# Altium footprint library Diodes.PcbLib: 38 footprints (part 1 of 3)
Each footprint in its own frame and in the unit in brackets; x right, y up, seen from the top. Pads: shape width x height; smd on the part's side, far side on the other; paste and mask are expansions set on the pad; w line width, h text height; cw(c..) or ccw(c..) is an arc to the next point about the centre after c.
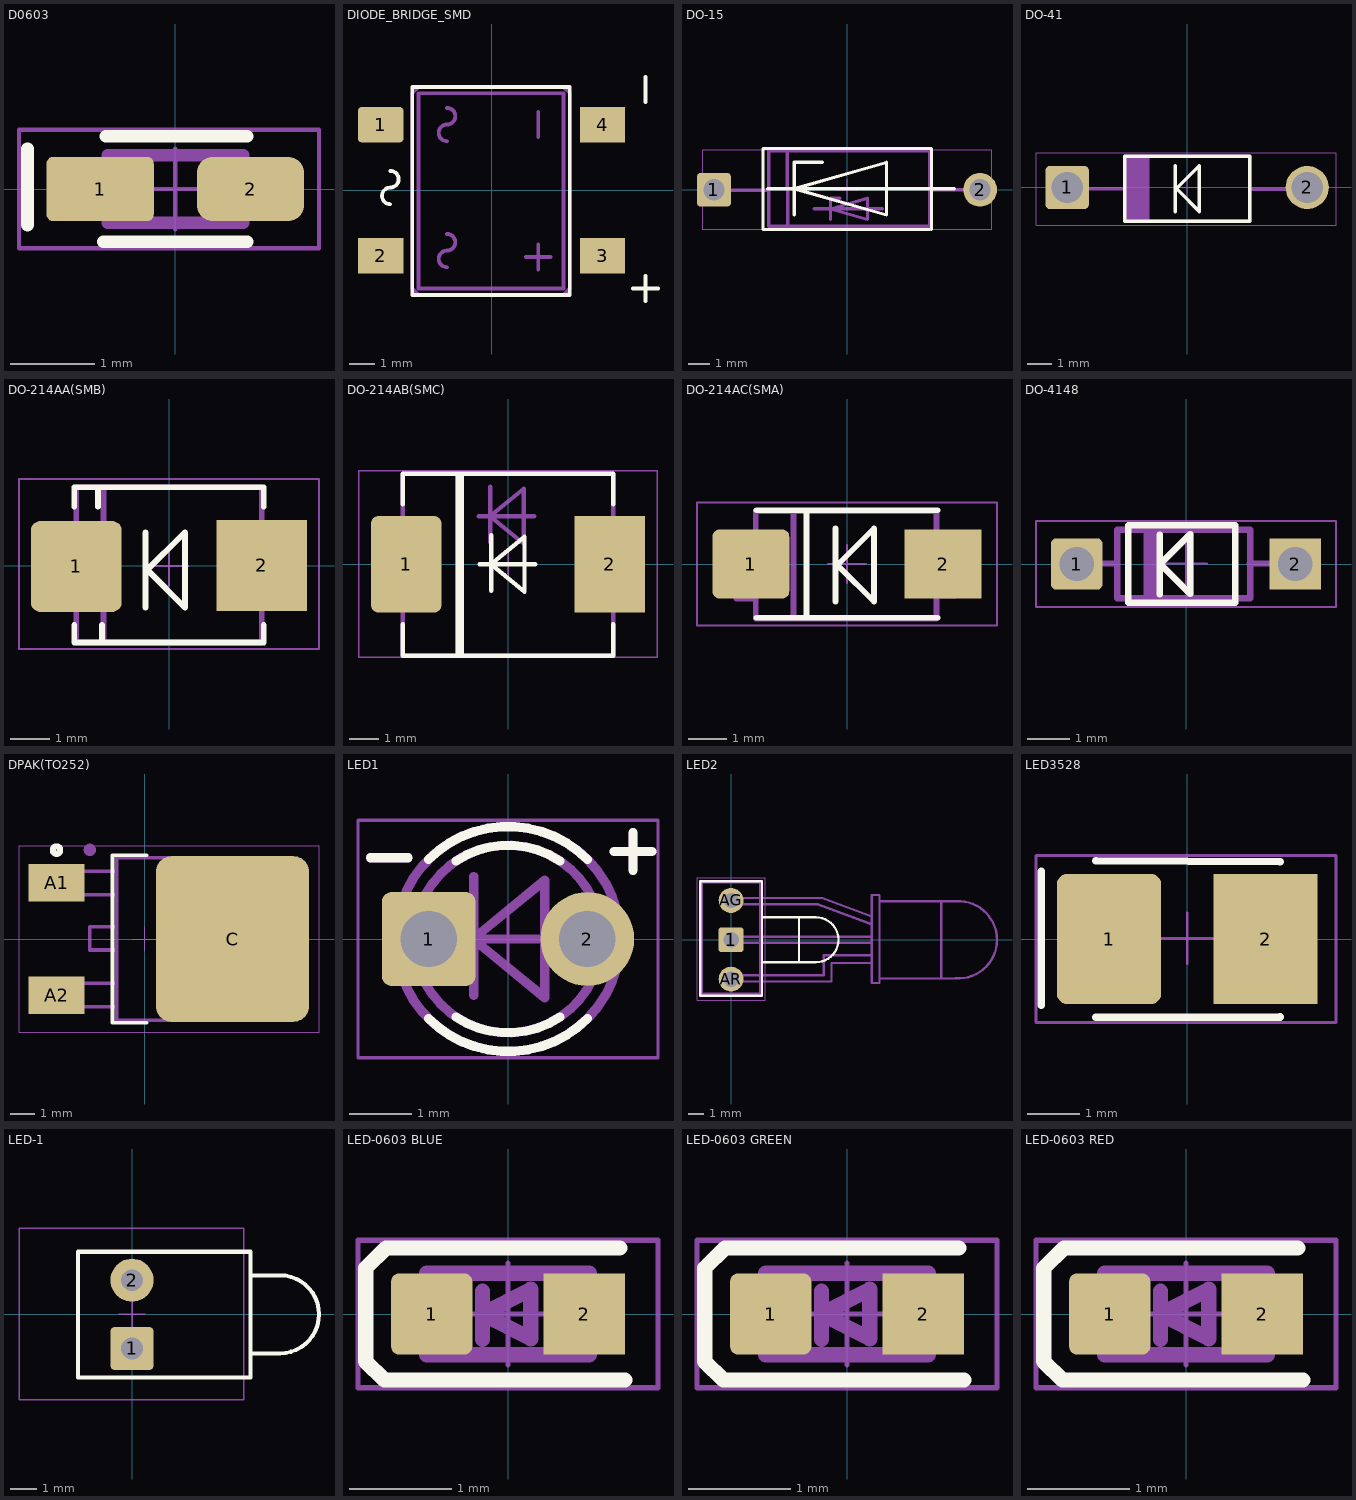
[diagram p0: the footprints below, top view; thin cyan lines are the x and y axes]

## D0603 [mm] "ESD Suppressors, Body 1.6x0.8mm, IPC High Density"
height 0.36
pads (2):
  rrect20% 1.27x0.76 smd paste-0.05 mask+0.075: 1(-0.89,0)
  rrect50% 1.27x0.76 smd paste-0.05 mask+0.075: 2(0.89,0)
Top Overlay:
  lines w0.15: -1.75,-0.425 -1.75,0.475 ; -0.85,-0.625 0.85,-0.625 ; -0.825,0.625 0.85,0.625
TopAssy 13:
  lines w0.15: -0.8,-0.4 0.8,-0.4 0.8,0.4 -0.8,0.4 -0.8,-0.4
CourtTop 15:
  lines w0.05: -0.475,0 0.475,0 ; 0,-0.475 0,0.475 ; -1.85,-0.7 1.7,-0.7 1.7,0.7 -1.85,0.7 -1.85,-0.7
3D body "User Library-suppressor.step": height 0.36, standoff 0, extent -0.83,-0.42 0.83,0.42

## DIODE_BRIDGE_SMD [mm] "DIODE_BRIDGE DF206S"
height 3
pads (4):
  rrect20% 1.8x1.4 smd: 1(-4.4,2.6)
  rect 1.8x1.4 smd: 2(-4.4,-2.6) 3(4.4,-2.6) 4(4.4,2.6)
Top Overlay:
  lines w0.15: -4.019,-0.552 cw(c-4.019,-0.222) -4.019,0.108 ccw(c-4.019,0.438) -4.019,0.768 ; 5.6,-3.9 6.6,-3.9 ; 6.1,-4.4 6.1,-3.4 ; 6.1,3.5 6.1,4.5 ; -3.15,-4.15 3.1,-4.15 3.1,4.1 -3.15,4.1 -3.15,-4.15
TopAssy 13:
  lines w0.15: -1.769,-3.052 cw(c-1.769,-2.722) -1.769,-2.392 ccw(c-1.769,-2.062) -1.769,-1.732 ; -1.769,1.948 cw(c-1.769,2.278) -1.769,2.608 ccw(c-1.769,2.938) -1.769,3.268 ; 1.35,-2.65 2.35,-2.65 ; 1.85,-3.15 1.85,-2.15 ; 1.85,2.1 1.85,3.1 ; -3.15,-3.9 -3.15,3.85 -2.9,4.1 2.85,4.1 3.1,3.85 3.1,-3.9 2.85,-4.15 -2.9,-4.15 -3.15,-3.9 ; -2.9,-3.9 2.85,-3.9 2.85,3.85 -2.9,3.85 -2.9,-3.9
3D body "User Library-bridge_DF206S-1.STEP": height 2.7, standoff 0, extent -5.075,-4.05 5.075,4.05

## DO-15 [mm] "P6KE DO-15"
pads (2):
  rrect20% 1.6x1.6 hole 1: 1(-6.3,0)
  round 1.6 hole 1: 2(6.3,0)
Top Overlay:
  lines w0.15: -3.75,0.05 5.075,0.05 ; -2.5,-1.2 -2.5,1.3 -1.175,1.3 ; 3.925,-1.875 -3.975,-1.875 -3.975,1.95 4,1.95 4,-1.875 ; -2.5,0.05 1.875,-1.2 1.875,1.3 -2.5,0.05
TopAssy 13:
  lines w0.15: -6.325,-0.025 -3.7,-0.025 ; -2.825,1.85 -2.801,-1.725 ; -1.55,-0.9 -0.775,-0.9 ; -0.775,-1.4 -0.775,-0.4 -0.325,-0.4 ; 1.675,-0.9 0.975,-0.9 -0.775,-0.9 ; 3.9,0 6.3,0 ; -0.775,-0.9 0.975,-0.4 0.975,-1.4 -0.775,-0.9 ; -3.7,-1.725 3.9,-1.725 3.9,1.85 -3.7,1.85 -3.7,-1.725
CourtTop 15:
  lines w0.05: -0.5,0 0.5,0 ; 0,-0.5 0,0.5 ; -6.85,-1.875 -6.85,1.9 6.85,1.9 6.85,-1.875 -6.85,-1.875
3D body "User Library-DO-15-2.STEP": height 3.78, standoff -3, extent -6.78,-1.81 6.78,1.75

## DO-41 [mm]
pads (2):
  rrect20% 1.8x1.8 hole 1.3: 1(-5,0)
  round 1.8 hole 1.3: 2(5,0)
Top Overlay:
  lines w0.15: -0.5,-1 -0.5,0.9 ; -2.6,-1.4 2.6,-1.4 2.6,1.3 -2.6,1.3 -2.6,-1.4 ; -0.5,-0.1 -0.4,-0.1 0.5,-1 0.5,0.9 -0.5,-0.1
TopAssy 13:
  region: -1.65,1.3 -2.6,1.3 -2.6,-1.4 -1.65,-1.4
  lines w0.15: -5,-0.05 -2.3,-0.05 ; -1.65,-1.4 -1.65,1.3 ; 2.6,-0.075 5,-0.075 ; -2.6,-1.4 -2.6,1.3 2.6,1.3 2.6,-1.4 -2.6,-1.4
CourtTop 15:
  lines w0.05: -0.5,0 0.5,0 ; 0,-0.5 0,0.5 ; -6.3,-1.575 6.2,-1.575 6.2,1.45 -6.3,1.45 -6.3,-1.575
3D body "User Library-DO-41-4.step": height 2.86, standoff -2.35, extent -5.58,-1.36 5.78,1.36

## DO-214AA(SMB) [mil] "DO-214AA(SMB) package"
height 96
pads (2):
  rrect20% 90.5x90.5 smd: 1(-92.5,-0.5)
  rect 90.5x90.5 smd: 2(92.5,0.5)
Top Overlay:
  lines w5.91: -94.49,-59.06 -94.49,-76.5 92.5,-76.5 ; -94.49,59.05 -94.49,78.5 92.5,78.5 ; -92.5,-76.5 94.49,-76.5 94.49,-59.06 ; -92.5,78.5 94.49,78.5 94.49,59.05 ; -70.87,59.05 -70.87,78.5 ; -66.93,-74.12 -66.93,-59.06 ; -23.62,-41.34 -23.62,33.46 ; -23.62,-5.91 15.75,33.46 15.75,-41.34 -19.68,-5.91
TopAssy 13:
  lines w5.91: -93.46,27.56 -112.19,27.56 -112.19,-33.46 -92.5,-33.46 ; -65.5,-76.5 -65.5,78.5 ; 92.52,30.51 112.2,30.51 112.2,-30.51 93.48,-30.51 ; -92.5,-76.5 92.5,-76.5 ; -92.5,-76.5 92.5,-76.5 ; -92.5,-76.5 -92.5,78.5 ; -92.5,78.5 92.5,78.5 ; -92.5,78.5 92.5,78.5 ; 92.5,-76.5 92.5,78.5
CourtTop 15:
  lines w1.97: -19.68,0 19.68,0 ; 0,-19.69 0,19.68 ; -149.61,-82.68 149.61,-82.68 149.61,86.61 -149.61,86.61 -149.61,-82.68
3D body "SW3dPS-DO-214AA SMB.STEP": height 90.65, standoff 0, extent -105.8,-70.23 106.8,71.5

## DO-214AB(SMC) [mm] "DO-214-AB/SMC; 2 C-Bend Leads; Body 7.9 x 5.9 mm, inc. leads (LxW)"
height 2.65
pads (2):
  rrect20% 2.4x3.3 smd: 1(-3.475,0)
  rect 2.4x3.3 smd: 2(3.475,0)
Top Overlay:
  lines w0.15: -3.6,-2.05 -3.6,-3.125 3.6,-3.125 3.6,-2.05 ; -3.6,2.05 -3.6,3.1 3.6,3.1 3.6,2.05 ; -1.725,-3.125 -1.725,3.1 ; -1.575,3.1 -1.575,-3.125 -1.55,-3.125 ; -0.975,0 -0.575,0 0.925,0 ; -0.575,-0.9 -0.575,1 ; -0.588,0 0.562,-0.938 0.562,0.937 -0.588,0
TopAssy 13:
  lines w0.15: -3.6,-1.525 -4.125,-1.525 -4.125,1.525 -3.6,1.525 ; -1.725,-3.125 -1.725,3.1 ; -1.575,3.1 -1.575,-3.125 -1.55,-3.125 ; -1,1.65 -0.6,1.65 0.9,1.65 ; -0.6,0.75 -0.6,2.65 ; 3.6,-1.475 4.125,-1.475 4.125,1.575 3.6,1.575 ; -3.6,-3.125 3.6,-3.125 3.6,3.1 -3.6,3.1 -3.6,-3.125 ; -0.613,1.65 0.537,0.712 0.537,2.587 -0.613,1.65
CourtTop 15:
  lines w0.05: -0.488,0.012 0.487,0.012 ; 0,-0.475 0,0.5 ; -5.1,-3.175 -5.1,3.2 5.1,3.2 5.1,-3.175 -5.1,-3.175
3D body "User Library-DO-214AB_SMC.step": height 2.4, standoff 0.03, extent -4.065,-3.05 4.065,3.05

## DO-214AC(SMA) [mm] "DO-214AC(SMA)"
pads (2):
  rrect20% 2x1.8 smd: 1(-2.5,0)
  rect 2x1.8 smd: 2(2.5,0)
Top Overlay:
  lines w0.15: -2.35,-1.4 2.35,-1.4 ; -2.35,1.4 2.35,1.4 ; -1.05,-1.4 -1.05,1.4 ; -0.3,-0.975 -0.3,0.925 ; -0.3,-0.075 0.7,0.925 0.7,-0.975 -0.2,-0.075
TopAssy 13:
  lines w0.15: -2.399,0.656 -2.875,0.656 -2.875,-0.894 -2.375,-0.894 ; -1.389,-1.425 -1.389,1.375 ; 2.324,0.731 2.824,0.731 2.824,-0.819 2.349,-0.819 ; -2.375,-1.425 2.324,-1.425 2.324,1.375 -2.375,1.375 -2.375,-1.425
CourtTop 15:
  lines w0.05: -0.5,0 0.5,0 ; 0,-0.5 0,0.5 ; -3.9,-1.6 -3.9,1.6 3.9,1.6 3.9,-1.6 -3.9,-1.6
3D body "User Library - SMA DO-214AC.step": height 2.6, standoff 0.03, extent -2.75,-1.4 2.75,1.4

## DO-4148 [mm]
pads (2):
  rrect20% 1.2x1.2 hole 0.8: 1(-2.55,0)
  rect 1.2x1.2 hole 0.8: 2(2.55,0)
Top Overlay:
  lines w0.15: -0.612,-0.712 -0.612,0.688 ; -0.6,0 0.1,0.7 0.1,-0.7 -0.6,0 ; -1.35,-0.9 1.15,-0.9 1.15,0.9 -1.35,0.9 -1.35,-0.9
TopAssy 13:
  lines w0.15: -2.6,0.012 -1.612,0.012 ; -0.912,-0.712 -0.912,0.688 ; -0.812,-0.712 -0.812,0.688 ; -0.712,-0.712 -0.712,0.688 ; -0.612,-0.712 -0.612,0.688 ; -0.6,0 0.1,0.7 0.1,-0.7 -0.6,0 ; 1.488,0.012 2.5,0.012 ; -1.6,-0.8 -1.6,0.8 1.5,0.8 1.5,-0.8 -1.6,-0.8
CourtTop 15:
  lines w0.05: -0.488,0.012 0.487,0.012 ; 0,-0.475 0,0.5 ; -3.5,-1 3.5,-1 3.5,1 -3.5,1 -3.5,-1
3D body "User Library-1N4148.step": height 1.83, standoff -1, extent -2.746,-0.825 2.766,0.825

## DPAK(TO252) [mm]
height 4.69
pads (3):
  rect 2.28x1.524 smd: A1(-3.58,2.28) A2(-3.58,-2.28)
  rrect20% 6.23x6.74 smd paste-5: C(3.58,0)
Top Overlay:
  circle w0.25: c-3.58,3.615 r0.149
  lines w0.15: 0.095,-3.4 -1.3,-3.4 -1.3,3.4 0.095,3.4
Top Paste:
  rectangle: 0.92,0.375 2.995,2.9
  rectangle: 4.095,0.4 6.17,2.925
  region: 2.995,-0.4 0.92,-0.4 0.92,-2.925 2.995,-2.925
  region: 6.17,-0.4 4.095,-0.4 4.095,-2.925 6.17,-2.925
TopAssy 13:
  circle w0.25: c-2.225,3.625 r0.125
  lines w0.15: -1.13,-2.75 -3.655,-2.75 -3.655,-1.8 -1.13,-1.8 ; -1.13,-0.45 -2.23,-0.45 -2.23,0.5 -1.13,0.5 ; -1.13,1.8 -3.655,1.8 -3.655,2.75 -1.13,2.75 ; 4.87,-3.3 -1.13,-3.3 -1.13,3.3 4.87,3.3 ; 4.875,-3.295 6.17,-2 6.17,2 4.875,3.295 4.875,-3.295
CourtTop 15:
  lines w0.05: -0.5,0 0.5,0 ; 0,-0.5 0,0.5 ; -5.105,-3.8 -5.105,3.8 7.095,3.8 7.095,-3.8 -5.105,-3.8
3D body "DPAK_TO-252AA.STEP": height 2.37, standoff -0.03, extent -4.198,-3.367 5.902,3.367

## LED1 [mm] "Светодиод типа КИПД66"
height 5.7
pads (2):
  rrect20% 1.5x1.5 hole 0.9: 1(-1.27,0)
  round 1.5 hole 0.9: 2(1.27,0)
Top Overlay:
  lines w0.15: -2.2,1.3 -1.6,1.3 ; -1.273,-1.273 ccw(c0,0) 1.273,-1.273 ; -1.273,1.273 cw(c0,0) 1.273,1.273 ; -0.832,-1.248 ccw(c0,0) 0.832,-1.248 ; -0.832,1.248 cw(c0,0) 0.832,1.248 ; 1.7,1.4 2.3,1.4 ; 2,1.1 2,1.7
TopAssy 13:
  circle w0.15: c0,0 r1.8
  circle w0.15: c0,0 r1.5
  lines w0.15: -2.2,1.3 -1.6,1.3 ; -0.95,0 -0.55,0 0.95,0 ; -0.55,-0.9 -0.55,1 ; 1.7,1.4 2.3,1.4 ; 2,1.1 2,1.7 ; -0.563,0 0.587,0.937 0.587,-0.937 -0.563,0
CourtTop 15:
  lines w0.05: -0.488,0.012 0.487,0.012 ; 0,-0.475 0,0.5 ; -2.4,-1.9 -2.4,1.9 2.4,1.9 2.4,-1.9 -2.4,-1.9
CourtBot 16:
  circle w0.15: c1.296,-0.092 r0.4
  circle w0.15: c-1.27,0 r0.4
3D body: height 5.7, standoff 1, extent -1.499,-1.499 1.499,1.499
3D body: height 2, standoff 1, extent -1.799,-1.799 1.799,1.799
3D body: height 1, standoff -3, extent 0.897,-0.491 1.695,0.307
3D body: height 1, standoff -3, extent -1.669,-0.399 -0.871,0.399

## LED2 [mm] "LED; 3 Leads"
height 1.45
pads (3):
  rrect20% 1.6x1.6 hole 1: 1(0,0)
  round 1.6 hole 1: AG(0,2.54) AR(0,-2.54)
Top Overlay:
  lines w0.15: 2,-1.45 4.4,-1.45 4.4,1.45 2,1.45 ; 4.375,-1.45 5.475,-1.45 ; 4.4,1.455 5.5,1.455 ; 5.5,-1.45 ccw(c5.5,0) 5.5,1.45 ; -2,-3.62 -0.4,-3.62 2,-3.62 2,3.775 -0.4,3.775 -2,3.775 -2,-3.62
TopAssy 13:
  lines w0.15: 9.1,-1.5 6.5,-1.5 6.5,-2.7 0.1,-2.7 0.1,-2.3 6,-2.3 6,-1 9.1,-1 ; 9.1,-0.2 0,-0.2 0,0.2 9.1,0.2 ; 9.1,1 5.6,2.3 0,2.3 0,2.7 5.9,2.7 9.1,1.5 ; 9.6,-2.5 13.6,-2.5 ; 9.6,2.5 13.6,2.5 ; 14.534,-2.494 ccw(c14.7,0) 14.569,2.497 ; 14.675,-2.5 13.6,-2.5 ; 14.7,2.5 13.6,2.5 ; 13.6,-2.5 13.6,2.5 ; -1.9,-3.5 -1.9,3.7 -0.475,3.7 1.9,3.7 1.9,-3.5 -0.28,-3.5 -1.9,-3.5 ; 9.1,-2.8 9.1,2.9 9.6,2.9 9.6,-2.4 9.6,-2.8 9.1,-2.8
CourtTop 15:
  lines w0.05: -0.488,0.012 0.487,0.012 ; 0,-0.475 0,0.5 ; -2.2,-3.9 -2.2,4 2.2,4 2.2,2 2.2,-2 2.2,-3.9 -2.2,-3.9
3D body "User Library-5BC-3-CA-F.STEP": height 5.9, standoff -2.12, extent -0.213,-2.9 17.296,2.786

## LED3528 [mm]
pads (2):
  rrect20% 2x2.5 smd: 1(-1.5,0)
  rect 2x2.5 smd: 2(1.5,0)
Top Overlay:
  lines w0.15: -2.8,-1.263 -2.8,1.3 ; -1.75,-1.5 1.775,-1.498 ; -1.75,1.5 1.775,1.48
CourtTop 15:
  lines w0.05: -0.488,0.012 0.487,0.012 ; 0,-0.475 0,0.5 ; -2.9,-1.6 2.85,-1.6 2.85,1.6 -2.9,1.6 -2.9,-1.6
3D body "User Library-SMD2835.step": height 0.7, standoff -0.02, extent -1.78,-1.4 1.785,1.4

## LED-1 [mm] "LED; 2 Leads"
height 1.45
pads (2):
  rrect20% 1.6x1.6 hole 0.8: 1(0,-1.27)
  round 1.6 hole 0.8: 2(0,1.27)
Top Overlay:
  lines w0.15: 4.4,-1.45 5.5,-1.45 ccw(c5.5,0) 5.5,1.45 4.4,1.45 ; -2,-2.35 4.4,-2.35 4.4,2.325 -2,2.325 -2,-2.35
CourtTop 15:
  lines w0.05: -0.488,0.012 0.487,0.012 ; 0,-0.475 0,0.5 ; -4.2,-3.175 4.15,-3.175 4.15,3.2 -4.2,3.2 -4.2,-3.175
3D body "User Library-LA 3366_bc.STEP": height 3.6, standoff -4, extent -0.225,-1.675 7.325,1.725

## LED-0603 BLUE [mm] "Чип светодиод 0603"
height 0.8
pads (2):
  rrect20% 0.8x0.8 smd: 1(-0.75,0)
  rect 0.8x0.8 smd: 2(0.75,0)
Top Overlay:
  lines w0.15: 1.1,0.65 -1.2,0.65 -1.4,0.45 -1.4,-0.465 -1.215,-0.65 1.15,-0.65
TopAssy 13:
  lines w0.15: -0.25,-0.25 -0.25,0.225 ; -0.8,-0.4 -0.8,0.4 0.8,0.4 0.8,-0.4 -0.8,-0.4 ; -0.25,0 0.225,-0.244 0.225,0.244 -0.25,0
CourtTop 15:
  lines w0.05: -0.5,0 0.5,0 ; 0,-0.5 0,0.5 ; -1.475,-0.725 -1.475,0.725 1.475,0.725 1.475,-0.725 -1.475,-0.725
3D body "User Library-Wurth Elektronik WL-SMCW 0603 (1608) LED Lens (Separate Body).step": height 0.7, standoff 0.3, extent -0.55,-0.4 0.55,0.4
3D body "User Library-Wurth Elektronik WL-SMCW 0603 (1608) LED Base (Separate Lens).step": height 0.64, standoff 0, extent -0.8,-0.4 0.8,0.4

## LED-0603 GREEN [mm] "Чип светодиод 0603"
height 0.8
pads (2):
  rrect20% 0.8x0.8 smd: 1(-0.75,0)
  rect 0.8x0.8 smd: 2(0.75,0)
Top Overlay:
  lines w0.15: 1.1,0.65 -1.2,0.65 -1.4,0.45 -1.4,-0.465 -1.215,-0.65 1.15,-0.65
TopAssy 13:
  lines w0.15: -0.25,-0.25 -0.25,0.225 ; -0.8,-0.4 -0.8,0.4 0.8,0.4 0.8,-0.4 -0.8,-0.4 ; -0.25,0 0.225,-0.244 0.225,0.244 -0.25,0
CourtTop 15:
  lines w0.05: -0.5,0 0.5,0 ; 0,-0.5 0,0.5 ; -1.475,-0.725 -1.475,0.725 1.475,0.725 1.475,-0.725 -1.475,-0.725
3D body "User Library-Wurth Elektronik WL-SMCW 0603 (1608) LED Lens (Separate Body).step": height 0.7, standoff 0.3, extent -0.55,-0.4 0.55,0.4
3D body "User Library-Wurth Elektronik WL-SMCW 0603 (1608) LED Base (Separate Lens).step": height 0.64, standoff 0, extent -0.8,-0.4 0.8,0.4

## LED-0603 RED [mm] "Чип светодиод 0603"
height 0.8
pads (2):
  rrect20% 0.8x0.8 smd: 1(-0.75,0)
  rect 0.8x0.8 smd: 2(0.75,0)
Top Overlay:
  lines w0.15: 1.1,0.65 -1.2,0.65 -1.4,0.45 -1.4,-0.465 -1.215,-0.65 1.15,-0.65
TopAssy 13:
  lines w0.15: -0.25,-0.25 -0.25,0.225 ; -0.8,-0.4 -0.8,0.4 0.8,0.4 0.8,-0.4 -0.8,-0.4 ; -0.25,0 0.225,-0.244 0.225,0.244 -0.25,0
CourtTop 15:
  lines w0.05: -0.5,0 0.5,0 ; 0,-0.5 0,0.5 ; -1.475,-0.725 -1.475,0.725 1.475,0.725 1.475,-0.725 -1.475,-0.725
3D body "User Library-Wurth Elektronik WL-SMCW 0603 (1608) LED Lens (Separate Body).step": height 0.7, standoff 0.3, extent -0.55,-0.4 0.55,0.4
3D body "User Library-Wurth Elektronik WL-SMCW 0603 (1608) LED Base (Separate Lens).step": height 0.64, standoff 0, extent -0.8,-0.4 0.8,0.4